# Altium integrated library Capacitor - Aluminium TH.IntLib: 4591 symbols (part 14 of 68)
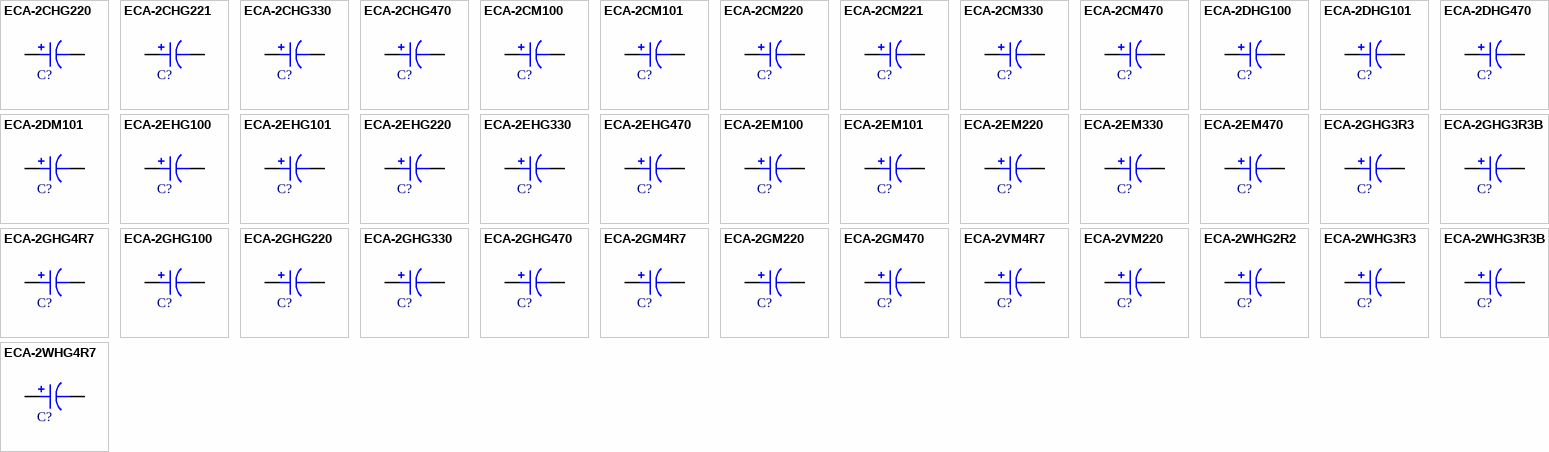
[diagram p127: symbols ECA-2CHG220 to ECA-2WHG4R7]

## ECA-2CM101
designator C?, comment 100uF  (value not drawn)
CAP ALUM 100UF 20% 160V RADIAL; Part Number: ECA-2CM101; Manufacturer: Panasonic Electronic Components; TemperatureRange: -25C ~ 85C; Type: Polar; Ripple Current: 515mA @ 120Hz; Value: 100uF; PartId: 23891; Supplier 1: Digi-Key; Supplier Part Number 1: P5326-ND; ComponentLink1Description: Datasheet; ComponentLink1URL: http://industrial.panasonic.com/www-cgi/jvcr13pz.cgi?E+PZ+3+ABA0012+ECA2CM101+7+WW; ComponentLink2Description: Digi-Key Listing; ComponentLink2URL: https://www.digikey.com/product-detail/en/panasonic-electronic-components/ECA-2CM101/P5326-ND/245080; Tolerance: 20%; Voltage: 160V; Price: 0.86; Device Package: Radial, Can, 12.5mm
footprint CAP AL TH D12.5 L5 H27
pins: 1, 2

## ECA-2CM220
designator C?, comment 22uF  (value not drawn)
CAP ALUM 22UF 20% 160V RADIAL; Part Number: ECA-2CM220; Manufacturer: Panasonic Electronic Components; TemperatureRange: -25C ~ 85C; Type: Polar; Ripple Current: 175mA @ 120Hz; Value: 22uF; PartId: 25176; Supplier 1: Digi-Key; Supplier Part Number 1: P5323-ND; ComponentLink1Description: Datasheet; ComponentLink1URL: http://industrial.panasonic.com/www-cgi/jvcr13pz.cgi?E+PZ+3+ABA0012+ECA2CM220+7+WW; ComponentLink2Description: Digi-Key Listing; ComponentLink2URL: https://www.digikey.com/product-detail/en/panasonic-electronic-components/ECA-2CM220/P5323-ND/245077; Tolerance: 20%; Voltage: 160V; Price: 0.46; Device Package: Radial, Can, 10mm
footprint CAP AL TH D10 L5 H17.5
pins: 1, 2

## ECA-2CM221
designator C?, comment 220uF  (value not drawn)
CAP ALUM 220UF 20% 160V RADIAL; Part Number: ECA-2CM221; Manufacturer: Panasonic Electronic Components; TemperatureRange: -25C ~ 85C; Type: Polar; Ripple Current: 830mA @ 120Hz; Value: 220uF; PartId: 27004; Supplier 1: Digi-Key; Supplier Part Number 1: P5327-ND; ComponentLink1Description: Datasheet; ComponentLink1URL: http://industrial.panasonic.com/www-cgi/jvcr13pz.cgi?E+PZ+3+ABA0012+ECA2CM221+7+WW; ComponentLink2Description: Digi-Key Listing; ComponentLink2URL: https://www.digikey.com/product-detail/en/panasonic-electronic-components/ECA-2CM221/P5327-ND/245081; Tolerance: 20%; Voltage: 160V; Price: 1.37; Device Package: Radial, Can, 16mm
footprint CAP AL TH D16 L7.5 H33.5
pins: 1, 2

## ECA-2CM330
designator C?, comment 33uF  (value not drawn)
CAP ALUM 33UF 20% 160V RADIAL; Part Number: ECA-2CM330; Manufacturer: Panasonic Electronic Components; TemperatureRange: -25C ~ 85C; Type: Polar; Ripple Current: 235mA @ 120Hz; Value: 33uF; PartId: 25849; Supplier 1: Digi-Key; Supplier Part Number 1: P5324-ND; ComponentLink1Description: Datasheet; ComponentLink1URL: http://industrial.panasonic.com/www-cgi/jvcr13pz.cgi?E+PZ+3+ABA0012+ECA2CM330+7+WW; ComponentLink2Description: Digi-Key Listing; ComponentLink2URL: https://www.digikey.com/product-detail/en/panasonic-electronic-components/ECA-2CM330/P5324-ND/245078; Tolerance: 20%; Voltage: 160V; Price: 0.54; Device Package: Radial, Can, 10mm
footprint CAP AL TH D10 L5 H22
pins: 1, 2

## ECA-2CM470
designator C?, comment 47uF  (value not drawn)
CAP ALUM 47UF 20% 160V RADIAL; Part Number: ECA-2CM470; Manufacturer: Panasonic Electronic Components; TemperatureRange: -25C ~ 85C; Type: Polar; Ripple Current: 320mA @ 120Hz; Value: 47uF; PartId: 23265; Supplier 1: Digi-Key; Supplier Part Number 1: P5325-ND; ComponentLink1Description: Datasheet; ComponentLink1URL: http://industrial.panasonic.com/www-cgi/jvcr13pz.cgi?E+PZ+3+ABA0012+ECA2CM470+7+WW; ComponentLink2Description: Digi-Key Listing; ComponentLink2URL: https://www.digikey.com/product-detail/en/panasonic-electronic-components/ECA-2CM470/P5325-ND/245079; Tolerance: 20%; Voltage: 160V; Price: 0.75; Device Package: Radial, Can, 12.5mm
footprint CAP AL TH D12.5 L5 H22
pins: 1, 2

## ECA-2DHG100
designator C?, comment 10uF  (value not drawn)
CAP 10UF 200V ELECT NHG RADIAL; Part Number: ECA-2DHG100; Manufacturer: Panasonic Electronic Components; TemperatureRange: -25C ~ 105C; Tolerance: 20%; Type: Polar; Ripple Current: 80mA @ 120Hz; Value: 10uF; PartId: 25300; Supplier 1: Digi-Key; Supplier Part Number 1: P19449-ND; ComponentLink1Description: Datasheet; ComponentLink1URL: http://industrial.panasonic.com/www-cgi/jvcr13pz.cgi?E+PZ+3+ABA0026+ECA2DHG100+7+WW; ComponentLink2Description: Digi-Key Listing; ComponentLink2URL: https://www.digikey.com/product-detail/en/panasonic-electronic-components/ECA-2DHG100/P19449-ND/334745; Voltage: 200V; Price: 0.63; Device Package: Radial, Can, 10mm
footprint CAP AL TH D10 L5 H17.5
pins: 1, 2

## ECA-2DHG101
designator C?, comment 100uF  (value not drawn)
CAP ALUM 100UF 20% 200V RADIAL; Part Number: ECA-2DHG101; Manufacturer: Panasonic Electronic Components; TemperatureRange: -25C ~ 105C; Type: Polar; Ripple Current: 335mA @ 120Hz; Value: 100uF; PartId: 26852; Supplier 1: Digi-Key; Supplier Part Number 1: P19450-ND; ComponentLink1Description: Datasheet; ComponentLink1URL: http://industrial.panasonic.com/www-cgi/jvcr13pz.cgi?E+PZ+3+ABA0026+ECA2DHG101+7+WW; ComponentLink2Description: Digi-Key Listing; ComponentLink2URL: https://www.digikey.com/product-detail/en/panasonic-electronic-components/ECA-2DHG101/P19450-ND/2688822; Tolerance: 20%; Voltage: 200V; Price: 1.09; Device Package: Radial, Can, 16mm
footprint CAP AL TH D16 L7.5 H27
pins: 1, 2

## ECA-2DHG470
designator C?, comment 47uF  (value not drawn)
CAP ALUM 47UF 20% 200V RADIAL; Part Number: ECA-2DHG470; Manufacturer: Panasonic Electronic Components; TemperatureRange: -25C ~ 105C; Type: Polar; Ripple Current: 220mA @ 120Hz; Value: 47uF; PartId: 23291; Supplier 1: Digi-Key; Supplier Part Number 1: P19452-ND; ComponentLink1Description: Datasheet; ComponentLink1URL: http://industrial.panasonic.com/www-cgi/jvcr13pz.cgi?E+PZ+3+ABA0026+ECA2DHG470+7+WW; ComponentLink2Description: Digi-Key Listing; ComponentLink2URL: https://www.digikey.com/product-detail/en/panasonic-electronic-components/ECA-2DHG470/P19452-ND/2688834; Tolerance: 20%; Voltage: 200V; Price: 0.79; Device Package: Radial, Can, 12.5mm
footprint CAP AL TH D12.5 L5 H22
pins: 1, 2

## ECA-2DM101
designator C?, comment 100uF  (value not drawn)
CAP ALUM 100UF 20% 200V RADIAL; Part Number: ECA-2DM101; Manufacturer: Panasonic Electronic Components; TemperatureRange: -25C ~ 85C; Type: Polar; Ripple Current: 475mA @ 120Hz; Value: 100uF; PartId: 26848; Supplier 1: Digi-Key; Supplier Part Number 1: P19453-ND; ComponentLink1Description: Datasheet; ComponentLink1URL: http://industrial.panasonic.com/www-cgi/jvcr13pz.cgi?E+PZ+3+ABA0012+ECA2DM101+7+WW; ComponentLink2Description: Digi-Key Listing; ComponentLink2URL: https://www.digikey.com/product-detail/en/panasonic-electronic-components/ECA-2DM101/P19453-ND/2688844; Tolerance: 20%; Voltage: 200V; Price: 1.04; Device Package: Radial, Can, 16mm
footprint CAP AL TH D16 L7.5 H27
pins: 1, 2

## ECA-2EHG100
designator C?, comment 10uF  (value not drawn)
CAP ALUM 10UF 20% 250V RADIAL; Part Number: ECA-2EHG100; Manufacturer: Panasonic Electronic Components; TemperatureRange: -25C ~ 105C; Type: Polar; Ripple Current: 88mA @ 120Hz; Value: 10uF; PartId: 25257; Supplier 1: Digi-Key; Supplier Part Number 1: P5867-ND; ComponentLink1Description: Datasheet; ComponentLink1URL: http://industrial.panasonic.com/www-cgi/jvcr13pz.cgi?E+PZ+3+ABA0026+ECA2EHG100+7+WW; ComponentLink2Description: Digi-Key Listing; ComponentLink2URL: https://www.digikey.com/product-detail/en/panasonic-electronic-components/ECA-2EHG100/P5867-ND/245216; Tolerance: 20%; Voltage: 250V; Price: 0.59; Device Package: Radial, Can, 10mm
footprint CAP AL TH D10 L5 H17.5
pins: 1, 2

## ECA-2EHG101
designator C?, comment 100uF  (value not drawn)
CAP ALUM 100UF 20% 250V RADIAL; Part Number: ECA-2EHG101; Manufacturer: Panasonic Electronic Components; TemperatureRange: -25C ~ 105C; Type: Polar; Ripple Current: 365mA @ 120Hz; Value: 100uF; PartId: 27013; Supplier 1: Digi-Key; Supplier Part Number 1: P5871-ND; ComponentLink1Description: Datasheet; ComponentLink1URL: http://industrial.panasonic.com/www-cgi/jvcr13pz.cgi?E+PZ+3+ABA0026+ECA2EHG101+7+WW; ComponentLink2Description: Digi-Key Listing; ComponentLink2URL: https://www.digikey.com/product-detail/en/panasonic-electronic-components/ECA-2EHG101/P5871-ND/245220; Tolerance: 20%; Voltage: 250V; Price: 1.42; Device Package: Radial, Can, 16mm
footprint CAP AL TH D16 L7.5 H33.5
pins: 1, 2

## ECA-2EHG220
designator C?, comment 22uF  (value not drawn)
CAP ALUM 22UF 20% 250V RADIAL; Part Number: ECA-2EHG220; Manufacturer: Panasonic Electronic Components; TemperatureRange: -25C ~ 105C; Type: Polar; Ripple Current: 155mA @ 120Hz; Value: 22uF; PartId: 23287; Supplier 1: Digi-Key; Supplier Part Number 1: P5868-ND; ComponentLink1Description: Datasheet; ComponentLink1URL: http://industrial.panasonic.com/www-cgi/jvcr13pz.cgi?E+PZ+3+ABA0026+ECA2EHG220+7+WW; ComponentLink2Description: Digi-Key Listing; ComponentLink2URL: https://www.digikey.com/product-detail/en/panasonic-electronic-components/ECA-2EHG220/P5868-ND/245217; Tolerance: 20%; Voltage: 250V; Price: 0.79; Device Package: Radial, Can, 12.5mm
footprint CAP AL TH D12.5 L5 H22
pins: 1, 2

## ECA-2EHG330
designator C?, comment 33uF  (value not drawn)
CAP ALUM 33UF 20% 250V RADIAL; Part Number: ECA-2EHG330; Manufacturer: Panasonic Electronic Components; TemperatureRange: -25C ~ 105C; Type: Polar; Ripple Current: 190mA @ 120Hz; Value: 33uF; PartId: 23347; Supplier 1: Digi-Key; Supplier Part Number 1: P5869-ND; ComponentLink1Description: Datasheet; ComponentLink1URL: http://industrial.panasonic.com/www-cgi/jvcr13pz.cgi?E+PZ+3+ABA0026+ECA2EHG330+7+WW; ComponentLink2Description: Digi-Key Listing; ComponentLink2URL: https://www.digikey.com/product-detail/en/panasonic-electronic-components/ECA-2EHG330/P5869-ND/245218; Tolerance: 20%; Voltage: 250V; Price: 0.85; Device Package: Radial, Can, 12.5mm
footprint CAP AL TH D12.5 L5 H22
pins: 1, 2

## ECA-2EHG470
designator C?, comment 47uF  (value not drawn)
CAP ALUM 47UF 20% 250V RADIAL; Part Number: ECA-2EHG470; Manufacturer: Panasonic Electronic Components; TemperatureRange: -25C ~ 105C; Type: Polar; Ripple Current: 230mA @ 120Hz; Value: 47uF; PartId: 23953; Supplier 1: Digi-Key; Supplier Part Number 1: P5870-ND; ComponentLink1Description: Datasheet; ComponentLink1URL: http://industrial.panasonic.com/www-cgi/jvcr13pz.cgi?E+PZ+3+ABA0026+ECA2EHG470+7+WW; ComponentLink2Description: Digi-Key Listing; ComponentLink2URL: https://www.digikey.com/product-detail/en/panasonic-electronic-components/ECA-2EHG470/P5870-ND/245219; Tolerance: 20%; Voltage: 250V; Price: 0.98; Device Package: Radial, Can, 12.5mm
footprint CAP AL TH D12.5 L5 H27
pins: 1, 2

## ECA-2EM100
designator C?, comment 10uF  (value not drawn)
CAP ALUM 10UF 20% 250V RADIAL; Part Number: ECA-2EM100; Manufacturer: Panasonic Electronic Components; TemperatureRange: -25C ~ 85C; Type: Polar; Ripple Current: 110mA @ 120Hz; Value: 10uF; PartId: 25177; Supplier 1: Digi-Key; Supplier Part Number 1: P5334-ND; ComponentLink1Description: Datasheet; ComponentLink1URL: http://industrial.panasonic.com/www-cgi/jvcr13pz.cgi?E+PZ+3+ABA0012+ECA2EM100+7+WW; ComponentLink2Description: Digi-Key Listing; ComponentLink2URL: https://www.digikey.com/product-detail/en/panasonic-electronic-components/ECA-2EM100/P5334-ND/245088; Tolerance: 20%; Voltage: 250V; Price: 0.46; Device Package: Radial, Can, 10mm
footprint CAP AL TH D10 L5 H17.5
pins: 1, 2

## ECA-2EM101
designator C?, comment 100uF  (value not drawn)
CAP ALUM 100UF 20% 250V RADIAL; Part Number: ECA-2EM101; Manufacturer: Panasonic Electronic Components; TemperatureRange: -25C ~ 85C; Type: Polar; Ripple Current: 530mA @ 120Hz; Value: 100uF; PartId: 26987; Supplier 1: Digi-Key; Supplier Part Number 1: P5338-ND; ComponentLink1Description: Datasheet; ComponentLink1URL: http://industrial.panasonic.com/www-cgi/jvcr13pz.cgi?E+PZ+3+ABA0012+ECA2EM101+7+WW; ComponentLink2Description: Digi-Key Listing; ComponentLink2URL: https://www.digikey.com/product-detail/en/panasonic-electronic-components/ECA-2EM101/P5338-ND/245092; Tolerance: 20%; Voltage: 250V; Price: 1.26; Device Package: Radial, Can, 16mm
footprint CAP AL TH D16 L7.5 H33.5
pins: 1, 2

## ECA-2EM220
designator C?, comment 22uF  (value not drawn)
CAP ALUM 22UF 20% 250V RADIAL; Part Number: ECA-2EM220; Manufacturer: Panasonic Electronic Components; TemperatureRange: -25C ~ 85C; Type: Polar; Ripple Current: 180mA @ 120Hz; Value: 22uF; PartId: 25862; Supplier 1: Digi-Key; Supplier Part Number 1: P5335-ND; ComponentLink1Description: Datasheet; ComponentLink1URL: http://industrial.panasonic.com/www-cgi/jvcr13pz.cgi?E+PZ+3+ABA0012+ECA2EM220+7+WW; ComponentLink2Description: Digi-Key Listing; ComponentLink2URL: https://www.digikey.com/product-detail/en/panasonic-electronic-components/ECA-2EM220/P5335-ND/245089; Tolerance: 20%; Voltage: 250V; Price: 0.6; Device Package: Radial, Can, 10mm
footprint CAP AL TH D10 L5 H22
pins: 1, 2

## ECA-2EM330
designator C?, comment 33uF  (value not drawn)
CAP ALUM 33UF 20% 250V RADIAL; Part Number: ECA-2EM330; Manufacturer: Panasonic Electronic Components; TemperatureRange: -25C ~ 85C; Type: Polar; Ripple Current: 250mA @ 120Hz; Value: 33uF; PartId: 23266; Supplier 1: Digi-Key; Supplier Part Number 1: P5336-ND; ComponentLink1Description: Datasheet; ComponentLink1URL: http://industrial.panasonic.com/www-cgi/jvcr13pz.cgi?E+PZ+3+ABA0012+ECA2EM330+7+WW; ComponentLink2Description: Digi-Key Listing; ComponentLink2URL: https://www.digikey.com/product-detail/en/panasonic-electronic-components/ECA-2EM330/P5336-ND/245090; Tolerance: 20%; Voltage: 250V; Price: 0.75; Device Package: Radial, Can, 12.5mm
footprint CAP AL TH D12.5 L5 H22
pins: 1, 2

## ECA-2EM470
designator C?, comment 47uF  (value not drawn)
CAP ALUM 47UF 20% 250V RADIAL; Part Number: ECA-2EM470; Manufacturer: Panasonic Electronic Components; TemperatureRange: -25C ~ 85C; Type: Polar; Ripple Current: 330mA @ 120Hz; Value: 47uF; PartId: 23892; Supplier 1: Digi-Key; Supplier Part Number 1: P5337-ND; ComponentLink1Description: Datasheet; ComponentLink1URL: http://industrial.panasonic.com/www-cgi/jvcr13pz.cgi?E+PZ+3+ABA0012+ECA2EM470+7+WW; ComponentLink2Description: Digi-Key Listing; ComponentLink2URL: https://www.digikey.com/product-detail/en/panasonic-electronic-components/ECA-2EM470/P5337-ND/245091; Tolerance: 20%; Voltage: 250V; Price: 0.86; Device Package: Radial, Can, 12.5mm
footprint CAP AL TH D12.5 L5 H27
pins: 1, 2

## ECA-2GHG3R3
designator C?, comment 3.3uF  (value not drawn)
CAP ALUM 3.3UF 20% 400V RADIAL; Part Number: ECA-2GHG3R3; Manufacturer: Panasonic Electronic Components; TemperatureRange: -25C ~ 105C; Type: Polar; Ripple Current: 40mA @ 120Hz; Value: 3.3uF; PartId: 24930; Supplier 1: Digi-Key; Supplier Part Number 1: P19459-ND; ComponentLink1Description: Datasheet; ComponentLink1URL: http://industrial.panasonic.com/www-cgi/jvcr13pz.cgi?E+PZ+3+ABA0026+ECA2GHG3R3+7+WW; ComponentLink2Description: Digi-Key Listing; ComponentLink2URL: https://www.digikey.com/product-detail/en/panasonic-electronic-components/ECA-2GHG3R3/P19459-ND/2688899; Tolerance: 20%; Voltage: 400V; Price: 0.5; Device Package: Radial, Can, 10mm
footprint CAP AL TH D10 L5 H14.5
pins: 1, 2

## ECA-2GHG3R3B
designator C?, comment 3.3uF  (value not drawn)
CAP ALUM 3.3UF 20% 400V RADIAL; Part Number: ECA-2GHG3R3B; Manufacturer: Panasonic Electronic Components; TemperatureRange: -25C ~ 105C; Type: Polar; Ripple Current: 40mA @ 120Hz; Value: 3.3uF; PartId: 24597; Supplier 1: Digi-Key; Supplier Part Number 1: P19570TB-ND; ComponentLink1Description: Datasheet; ComponentLink1URL: http://industrial.panasonic.com/www-cgi/jvcr13pz.cgi?E+PZ+3+ABA0026+ECA2GHG3R3B+7+WW; ComponentLink2Description: Digi-Key Listing; ComponentLink2URL: https://www.digikey.com/product-detail/en/panasonic-electronic-components/ECA-2GHG3R3B/P19570TB-ND/2688900; Tolerance: 20%; Voltage: 400V; Price: 0.1728; Device Package: Radial, Can, 10mm
footprint CAP AL TH D10 L5 H14.5
pins: 1, 2

## ECA-2GHG4R7
designator C?, comment 4.7uF  (value not drawn)
CAP ALUM 4.7UF 20% 400V RADIAL; Part Number: ECA-2GHG4R7; Manufacturer: Panasonic Electronic Components; TemperatureRange: -25C ~ 105C; Type: Polar; Ripple Current: 50mA @ 120Hz; Value: 4.7uF; PartId: 25298; Supplier 1: Digi-Key; Supplier Part Number 1: P19461-ND; ComponentLink1Description: Datasheet; ComponentLink1URL: http://industrial.panasonic.com/www-cgi/jvcr13pz.cgi?E+PZ+3+ABA0026+ECA2GHG4R7+7+WW; ComponentLink2Description: Digi-Key Listing; ComponentLink2URL: https://www.digikey.com/product-detail/en/panasonic-electronic-components/ECA-2GHG4R7/P19461-ND/2688902; Tolerance: 20%; Voltage: 400V; Price: 0.63; Device Package: Radial, Can, 10mm
footprint CAP AL TH D10 L5 H17.5
pins: 1, 2

## ECA-2GHG100
designator C?, comment 10uF  (value not drawn)
CAP ALUM 10UF 20% 400V RADIAL; Part Number: ECA-2GHG100; Manufacturer: Panasonic Electronic Components; TemperatureRange: -25C ~ 105C; Type: Polar; Ripple Current: 80mA @ 120Hz; Value: 10uF; PartId: 25919; Supplier 1: Digi-Key; Supplier Part Number 1: P19455-ND; ComponentLink1Description: Datasheet; ComponentLink1URL: http://industrial.panasonic.com/www-cgi/jvcr13pz.cgi?E+PZ+3+ABA0026+ECA2GHG100+7+WW; ComponentLink2Description: Digi-Key Listing; ComponentLink2URL: https://www.digikey.com/product-detail/en/panasonic-electronic-components/ECA-2GHG100/P19455-ND/2688890; Tolerance: 20%; Voltage: 400V; Price: 0.71; Device Package: Radial, Can, 10mm
footprint CAP AL TH D10 L5 H22
pins: 1, 2

## ECA-2GHG220
designator C?, comment 22uF  (value not drawn)
CAP ALUM 22UF 20% 400V RADIAL; Part Number: ECA-2GHG220; Manufacturer: Panasonic Electronic Components; TemperatureRange: -25C ~ 105C; Type: Polar; Ripple Current: 145mA @ 120Hz; Value: 22uF; PartId: 23958; Supplier 1: Digi-Key; Supplier Part Number 1: P19456-ND; ComponentLink1Description: Datasheet; ComponentLink1URL: http://industrial.panasonic.com/www-cgi/jvcr13pz.cgi?E+PZ+3+ABA0026+ECA2GHG220+7+WW; ComponentLink2Description: Digi-Key Listing; ComponentLink2URL: https://www.digikey.com/product-detail/en/panasonic-electronic-components/ECA-2GHG220/P19456-ND/2688892; Tolerance: 20%; Voltage: 400V; Price: 0.98; Device Package: Radial, Can, 12.5mm
footprint CAP AL TH D12.5 L5 H27
pins: 1, 2

## ECA-2GHG330
designator C?, comment 33uF  (value not drawn)
CAP ALUM 33UF 20% 400V RADIAL; Part Number: ECA-2GHG330; Manufacturer: Panasonic Electronic Components; TemperatureRange: -25C ~ 105C; Type: Polar; Ripple Current: 195mA @ 120Hz; Value: 33uF; PartId: 26887; Supplier 1: Digi-Key; Supplier Part Number 1: P19458-ND; ComponentLink1Description: Datasheet; ComponentLink1URL: http://industrial.panasonic.com/www-cgi/jvcr13pz.cgi?E+PZ+3+ABA0026+ECA2GHG330+7+WW; ComponentLink2Description: Digi-Key Listing; ComponentLink2URL: https://www.digikey.com/product-detail/en/panasonic-electronic-components/ECA-2GHG330/P19458-ND/2688897; Tolerance: 20%; Voltage: 400V; Price: 1.31; Device Package: Radial, Can, 16mm
footprint CAP AL TH D16 L7.5 H27
pins: 1, 2

## ECA-2GHG470
designator C?, comment 47uF  (value not drawn)
CAP ALUM 47UF 20% 400V RADIAL; Part Number: ECA-2GHG470; Manufacturer: Panasonic Electronic Components; TemperatureRange: -25C ~ 105C; Type: Polar; Ripple Current: 250mA @ 120Hz; Value: 47uF; PartId: 27073; Supplier 1: Digi-Key; Supplier Part Number 1: P19460-ND; ComponentLink1Description: Datasheet; ComponentLink1URL: http://industrial.panasonic.com/www-cgi/jvcr13pz.cgi?E+PZ+3+ABA0026+ECA2GHG470+7+WW; ComponentLink2Description: Digi-Key Listing; ComponentLink2URL: https://www.digikey.com/product-detail/en/panasonic-electronic-components/ECA-2GHG470/P19460-ND/2688901; Tolerance: 20%; Voltage: 400V; Price: 1.64; Device Package: Radial, Can, 16mm
footprint CAP AL TH D16 L7.5 H33.5
pins: 1, 2

## ECA-2GM4R7
designator C?, comment 4.7uF  (value not drawn)
CAP ALUM 4.7UF 20% 400V RADIAL; Part Number: ECA-2GM4R7; Manufacturer: Panasonic Electronic Components; TemperatureRange: -25C ~ 85C; Type: Polar; Ripple Current: 72mA @ 120Hz; Value: 4.7uF; PartId: 25202; Supplier 1: Digi-Key; Supplier Part Number 1: P19467-ND; ComponentLink1Description: Datasheet; ComponentLink1URL: http://industrial.panasonic.com/www-cgi/jvcr13pz.cgi?E+PZ+3+ABA0012+ECA2GM4R7+7+WW; ComponentLink2Description: Digi-Key Listing; ComponentLink2URL: https://www.digikey.com/product-detail/en/panasonic-electronic-components/ECA-2GM4R7/P19467-ND/2688920; Tolerance: 20%; Voltage: 400V; Price: 0.5; Device Package: Radial, Can, 10mm
footprint CAP AL TH D10 L5 H17.5
pins: 1, 2

## ECA-2GM220
designator C?, comment 22uF  (value not drawn)
CAP ALUM 22UF 20% 400V RADIAL; Part Number: ECA-2GM220; Manufacturer: Panasonic Electronic Components; TemperatureRange: -25C ~ 85C; Type: Polar; Ripple Current: 215mA @ 120Hz; Value: 22uF; PartId: 23912; Supplier 1: Digi-Key; Supplier Part Number 1: P19464-ND; ComponentLink1Description: Datasheet; ComponentLink1URL: http://industrial.panasonic.com/www-cgi/jvcr13pz.cgi?E+PZ+3+ABA0012+ECA2GM220+7+WW; ComponentLink2Description: Digi-Key Listing; ComponentLink2URL: https://www.digikey.com/product-detail/en/panasonic-electronic-components/ECA-2GM220/P19464-ND/2688910; Tolerance: 20%; Voltage: 400V; Price: 0.92; Device Package: Radial, Can, 12.5mm
footprint CAP AL TH D12.5 L5 H27
pins: 1, 2

## ECA-2GM470
designator C?, comment 47uF  (value not drawn)
CAP ALUM 47UF 20% 400V RADIAL; Part Number: ECA-2GM470; Manufacturer: Panasonic Electronic Components; TemperatureRange: -25C ~ 85C; Type: Polar; Ripple Current: 350mA @ 120Hz; Value: 47uF; PartId: 27039; Supplier 1: Digi-Key; Supplier Part Number 1: P19466-ND; ComponentLink1Description: Datasheet; ComponentLink1URL: http://industrial.panasonic.com/www-cgi/jvcr13pz.cgi?E+PZ+3+ABA0012+ECA2GM470+7+WW; ComponentLink2Description: Digi-Key Listing; ComponentLink2URL: https://www.digikey.com/product-detail/en/panasonic-electronic-components/ECA-2GM470/P19466-ND/2688919; Tolerance: 20%; Voltage: 400V; Price: 1.53; Device Package: Radial, Can, 16mm
footprint CAP AL TH D16 L7.5 H33.5
pins: 1, 2

## ECA-2VM4R7
designator C?, comment 4.7uF  (value not drawn)
CAP ALUM 4.7UF 20% 350V RADIAL; Part Number: ECA-2VM4R7; Manufacturer: Panasonic Electronic Components; TemperatureRange: -25C ~ 85C; Type: Polar; Ripple Current: 65mA @ 120Hz; Value: 4.7uF; PartId: 24765; Supplier 1: Digi-Key; Supplier Part Number 1: P19471-ND; ComponentLink1Description: Datasheet; ComponentLink1URL: http://industrial.panasonic.com/www-cgi/jvcr13pz.cgi?E+PZ+3+ABA0012+ECA2VM4R7+7+WW; ComponentLink2Description: Digi-Key Listing; ComponentLink2URL: https://www.digikey.com/product-detail/en/panasonic-electronic-components/ECA-2VM4R7/P19471-ND/2688958; Tolerance: 20%; Voltage: 350V; Price: 0.43; Device Package: Radial, Can, 10mm
footprint CAP AL TH D10 L5 H14.5
pins: 1, 2

## ECA-2VM220
designator C?, comment 22uF  (value not drawn)
CAP ALUM 22UF 20% 350V RADIAL; Part Number: ECA-2VM220; Manufacturer: Panasonic Electronic Components; TemperatureRange: -25C ~ 85C; Type: Polar; Ripple Current: 195mA @ 120Hz; Value: 22uF; PartId: 23348; Supplier 1: Digi-Key; Supplier Part Number 1: P19470-ND; ComponentLink1Description: Datasheet; ComponentLink1URL: http://industrial.panasonic.com/www-cgi/jvcr13pz.cgi?E+PZ+3+ABA0012+ECA2VM220+7+WW; ComponentLink2Description: Digi-Key Listing; ComponentLink2URL: https://www.digikey.com/product-detail/en/panasonic-electronic-components/ECA-2VM220/P19470-ND/2688947; Tolerance: 20%; Voltage: 350V; Price: 0.85; Device Package: Radial, Can, 12.5mm
footprint CAP AL TH D12.5 L5 H22
pins: 1, 2

## ECA-2WHG2R2
designator C?, comment 2.2uF  (value not drawn)
CAP ALUM 2.2UF 20% 450V RADIAL; Part Number: ECA-2WHG2R2; Manufacturer: Panasonic Electronic Components; TemperatureRange: -25C ~ 105C; Type: Polar; Ripple Current: 29mA @ 120Hz; Value: 2.2uF; PartId: 24819; Supplier 1: Digi-Key; Supplier Part Number 1: P5873-ND; ComponentLink1Description: Datasheet; ComponentLink1URL: http://industrial.panasonic.com/www-cgi/jvcr13pz.cgi?E+PZ+3+ABA0026+ECA2WHG2R2+7+WW; ComponentLink2Description: Digi-Key Listing; ComponentLink2URL: https://www.digikey.com/product-detail/en/panasonic-electronic-components/ECA-2WHG2R2/P5873-ND/245222; Tolerance: 20%; Voltage: 450V; Price: 0.46; Device Package: Radial, Can, 10mm
footprint CAP AL TH D10 L5 H14.5
pins: 1, 2

## ECA-2WHG3R3
designator C?, comment 3.3uF  (value not drawn)
CAP ALUM 3.3UF 20% 450V RADIAL; Part Number: ECA-2WHG3R3; Manufacturer: Panasonic Electronic Components; TemperatureRange: -25C ~ 105C; Type: Polar; Ripple Current: 41mA @ 120Hz; Value: 3.3uF; PartId: 25306; Supplier 1: Digi-Key; Supplier Part Number 1: P5874-ND; ComponentLink1Description: Datasheet; ComponentLink1URL: http://industrial.panasonic.com/www-cgi/jvcr13pz.cgi?E+PZ+3+ABA0026+ECA2WHG3R3+7+WW; ComponentLink2Description: Digi-Key Listing; ComponentLink2URL: https://www.digikey.com/product-detail/en/panasonic-electronic-components/ECA-2WHG3R3/P5874-ND/245223; Tolerance: 20%; Voltage: 450V; Price: 0.65; Device Package: Radial, Can, 10mm
footprint CAP AL TH D10 L5 H17.5
pins: 1, 2

## ECA-2WHG3R3B
designator C?, comment 3.3uF  (value not drawn)
CAP ALUM 3.3UF 20% 450V RADIAL; Part Number: ECA-2WHG3R3B; Manufacturer: Panasonic Electronic Components; TemperatureRange: -25C ~ 105C; Type: Polar; Ripple Current: 41mA @ 120Hz; Value: 3.3uF; PartId: 25065; Supplier 1: Digi-Key; Supplier Part Number 1: P19572TB-ND; ComponentLink1Description: Datasheet; ComponentLink1URL: http://industrial.panasonic.com/www-cgi/jvcr13pz.cgi?E+PZ+3+ABA0026+ECA2WHG3R3B+7+WW; ComponentLink2Description: Digi-Key Listing; ComponentLink2URL: https://www.digikey.com/product-detail/en/panasonic-electronic-components/ECA-2WHG3R3B/P19572TB-ND/2688966; Tolerance: 20%; Voltage: 450V; Price: 0.2244; Device Package: Radial, Can, 10mm
footprint CAP AL TH D10 L5 H17.5
pins: 1, 2

## ECA-2WHG4R7
designator C?, comment 4.7uF  (value not drawn)
CAP ALUM 4.7UF 20% 450V RADIAL; Part Number: ECA-2WHG4R7; Manufacturer: Panasonic Electronic Components; TemperatureRange: -25C ~ 105C; Type: Polar; Ripple Current: 49mA @ 120Hz; Value: 4.7uF; PartId: 25884; Supplier 1: Digi-Key; Supplier Part Number 1: P5875-ND; ComponentLink1Description: Datasheet; ComponentLink1URL: http://industrial.panasonic.com/www-cgi/jvcr13pz.cgi?E+PZ+3+ABA0026+ECA2WHG4R7+7+WW; ComponentLink2Description: Digi-Key Listing; ComponentLink2URL: https://www.digikey.com/product-detail/en/panasonic-electronic-components/ECA-2WHG4R7/P5875-ND/245224; Tolerance: 20%; Voltage: 450V; Price: 0.65; Device Package: Radial, Can, 10mm
footprint CAP AL TH D10 L5 H22
pins: 1, 2

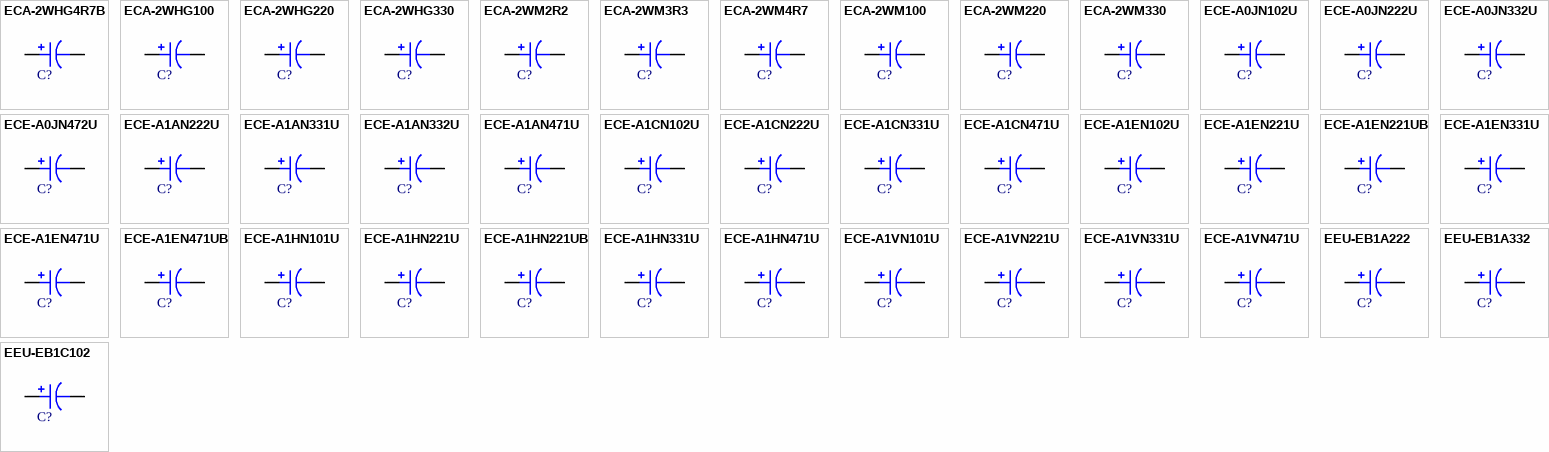
[diagram p23: symbols ECA-2WHG4R7B to EEU-EB1C102]

## ECA-2WHG4R7B
designator C?, comment 4.7uF  (value not drawn)
CAP ALUM 4.7UF 20% 450V RADIAL; Part Number: ECA-2WHG4R7B; Manufacturer: Panasonic Electronic Components; TemperatureRange: -25C ~ 105C; Type: Polar; Ripple Current: 49mA @ 120Hz; Value: 4.7uF; PartId: 25777; Supplier 1: Digi-Key; Supplier Part Number 1: P19573TB-ND; ComponentLink1Description: Datasheet; ComponentLink1URL: http://industrial.panasonic.com/www-cgi/jvcr13pz.cgi?E+PZ+3+ABA0026+ECA2WHG4R7B+7+WW; ComponentLink2Description: Digi-Key Listing; ComponentLink2URL: https://www.digikey.com/product-detail/en/panasonic-electronic-components/ECA-2WHG4R7B/P19573TB-ND/2688967; Tolerance: 20%; Voltage: 450V; Price: 0.2446; Device Package: Radial, Can, 10mm
footprint CAP AL TH D10 L5 H22
pins: 1, 2

## ECA-2WHG100
designator C?, comment 10uF  (value not drawn)
CAP ALUM 10UF 20% 450V RADIAL; Part Number: ECA-2WHG100; Manufacturer: Panasonic Electronic Components; TemperatureRange: -25C ~ 105C; Type: Polar; Ripple Current: 75mA @ 120Hz; Value: 10uF; PartId: 23359; Supplier 1: Digi-Key; Supplier Part Number 1: P5876-ND; ComponentLink1Description: Datasheet; ComponentLink1URL: http://industrial.panasonic.com/www-cgi/jvcr13pz.cgi?E+PZ+3+ABA0026+ECA2WHG100+7+WW; ComponentLink2Description: Digi-Key Listing; ComponentLink2URL: https://www.digikey.com/product-detail/en/panasonic-electronic-components/ECA-2WHG100/P5876-ND/245225; Tolerance: 20%; Voltage: 450V; Price: 0.86; Device Package: Radial, Can, 12.5mm
footprint CAP AL TH D12.5 L5 H22
pins: 1, 2

## ECA-2WHG220
designator C?, comment 22uF  (value not drawn)
CAP ALUM 22UF 20% 450V RADIAL; Part Number: ECA-2WHG220; Manufacturer: Panasonic Electronic Components; TemperatureRange: -25C ~ 105C; Type: Polar; Ripple Current: 115mA @ 120Hz; Value: 22uF; PartId: 26884; Supplier 1: Digi-Key; Supplier Part Number 1: P5877-ND; ComponentLink1Description: Datasheet; ComponentLink1URL: http://industrial.panasonic.com/www-cgi/jvcr13pz.cgi?E+PZ+3+ABA0026+ECA2WHG220+7+WW; ComponentLink2Description: Digi-Key Listing; ComponentLink2URL: https://www.digikey.com/product-detail/en/panasonic-electronic-components/ECA-2WHG220/P5877-ND/245226; Tolerance: 20%; Voltage: 450V; Price: 1.31; Device Package: Radial, Can, 16mm
footprint CAP AL TH D16 L7.5 H27
pins: 1, 2

## ECA-2WHG330
designator C?, comment 33uF  (value not drawn)
CAP ALUM 33UF 20% 450V RADIAL; Part Number: ECA-2WHG330; Manufacturer: Panasonic Electronic Components; TemperatureRange: -25C ~ 105C; Type: Polar; Ripple Current: 155mA @ 120Hz; Value: 33uF; PartId: 27070; Supplier 1: Digi-Key; Supplier Part Number 1: P5878-ND; ComponentLink1Description: Datasheet; ComponentLink1URL: http://industrial.panasonic.com/www-cgi/jvcr13pz.cgi?E+PZ+3+ABA0026+ECA2WHG330+7+WW; ComponentLink2Description: Digi-Key Listing; ComponentLink2URL: https://www.digikey.com/product-detail/en/panasonic-electronic-components/ECA-2WHG330/P5878-ND/245227; Tolerance: 20%; Voltage: 450V; Price: 1.64; Device Package: Radial, Can, 16mm
footprint CAP AL TH D16 L7.5 H33.5
pins: 1, 2

## ECA-2WM2R2
designator C?, comment 2.2uF  (value not drawn)
CAP ALUM 2.2UF 20% 450V RADIAL; Part Number: ECA-2WM2R2; Manufacturer: Panasonic Electronic Components; TemperatureRange: -25C ~ 85C; Type: Polar; Ripple Current: 44mA @ 120Hz; Value: 2.2uF; PartId: 24762; Supplier 1: Digi-Key; Supplier Part Number 1: P5341-ND; ComponentLink1Description: Datasheet; ComponentLink1URL: http://industrial.panasonic.com/www-cgi/jvcr13pz.cgi?E+PZ+3+ABA0012+ECA2WM2R2+7+WW; ComponentLink2Description: Digi-Key Listing; ComponentLink2URL: https://www.digikey.com/product-detail/en/panasonic-electronic-components/ECA-2WM2R2/P5341-ND/245095; Tolerance: 20%; Voltage: 450V; Price: 0.43; Device Package: Radial, Can, 10mm
footprint CAP AL TH D10 L5 H14.5
pins: 1, 2

## ECA-2WM3R3
designator C?, comment 3.3uF  (value not drawn)
CAP ALUM 3.3UF 20% 450V RADIAL; Part Number: ECA-2WM3R3; Manufacturer: Panasonic Electronic Components; TemperatureRange: -25C ~ 85C; Type: Polar; Ripple Current: 60mA @ 120Hz; Value: 3.3uF; PartId: 25201; Supplier 1: Digi-Key; Supplier Part Number 1: P5342-ND; ComponentLink1Description: Datasheet; ComponentLink1URL: http://industrial.panasonic.com/www-cgi/jvcr13pz.cgi?E+PZ+3+ABA0012+ECA2WM3R3+7+WW; ComponentLink2Description: Digi-Key Listing; ComponentLink2URL: https://www.digikey.com/product-detail/en/panasonic-electronic-components/ECA-2WM3R3/P5342-ND/245096; Tolerance: 20%; Voltage: 450V; Price: 0.5; Device Package: Radial, Can, 10mm
footprint CAP AL TH D10 L5 H17.5
pins: 1, 2

## ECA-2WM4R7
designator C?, comment 4.7uF  (value not drawn)
CAP ALUM 4.7UF 20% 450V RADIAL; Part Number: ECA-2WM4R7; Manufacturer: Panasonic Electronic Components; TemperatureRange: -25C ~ 85C; Type: Polar; Ripple Current: 79mA @ 120Hz; Value: 4.7uF; PartId: 25867; Supplier 1: Digi-Key; Supplier Part Number 1: P5343-ND; ComponentLink1Description: Datasheet; ComponentLink1URL: http://industrial.panasonic.com/www-cgi/jvcr13pz.cgi?E+PZ+3+ABA0012+ECA2WM4R7+7+WW; ComponentLink2Description: Digi-Key Listing; ComponentLink2URL: https://www.digikey.com/product-detail/en/panasonic-electronic-components/ECA-2WM4R7/P5343-ND/245097; Tolerance: 20%; Voltage: 450V; Price: 0.63; Device Package: Radial, Can, 10mm
footprint CAP AL TH D10 L5 H22
pins: 1, 2

## ECA-2WM100
designator C?, comment 10uF  (value not drawn)
CAP ALUM 10UF 20% 450V RADIAL; Part Number: ECA-2WM100; Manufacturer: Panasonic Electronic Components; TemperatureRange: -25C ~ 85C; Type: Polar; Ripple Current: 130mA @ 120Hz; Value: 10uF; PartId: 23294; Supplier 1: Digi-Key; Supplier Part Number 1: P5344-ND; ComponentLink1Description: Datasheet; ComponentLink1URL: http://industrial.panasonic.com/www-cgi/jvcr13pz.cgi?E+PZ+3+ABA0012+ECA2WM100+7+WW; ComponentLink2Description: Digi-Key Listing; ComponentLink2URL: https://www.digikey.com/product-detail/en/panasonic-electronic-components/ECA-2WM100/P5344-ND/245098; Tolerance: 20%; Voltage: 450V; Price: 0.8; Device Package: Radial, Can, 12.5mm
footprint CAP AL TH D12.5 L5 H22
pins: 1, 2

## ECA-2WM220
designator C?, comment 22uF  (value not drawn)
CAP ALUM 22UF 20% 450V RADIAL; Part Number: ECA-2WM220; Manufacturer: Panasonic Electronic Components; TemperatureRange: -25C ~ 85C; Type: Polar; Ripple Current: 210mA @ 120Hz; Value: 22uF; PartId: 26857; Supplier 1: Digi-Key; Supplier Part Number 1: P5345-ND; ComponentLink1Description: Datasheet; ComponentLink1URL: http://industrial.panasonic.com/www-cgi/jvcr13pz.cgi?E+PZ+3+ABA0012+ECA2WM220+7+WW; ComponentLink2Description: Digi-Key Listing; ComponentLink2URL: https://www.digikey.com/product-detail/en/panasonic-electronic-components/ECA-2WM220/P5345-ND/245099; Tolerance: 20%; Voltage: 450V; Price: 1.18; Device Package: Radial, Can, 16mm
footprint CAP AL TH D16 L7.5 H27
pins: 1, 2

## ECA-2WM330
designator C?, comment 33uF  (value not drawn)
CAP ALUM 33UF 20% 450V RADIAL; Part Number: ECA-2WM330; Manufacturer: Panasonic Electronic Components; TemperatureRange: -25C ~ 85C; Type: Polar; Ripple Current: 285mA @ 120Hz; Value: 33uF; PartId: 27037; Supplier 1: Digi-Key; Supplier Part Number 1: P5346-ND; ComponentLink1Description: Datasheet; ComponentLink1URL: http://industrial.panasonic.com/www-cgi/jvcr13pz.cgi?E+PZ+3+ABA0012+ECA2WM330+7+WW; ComponentLink2Description: Digi-Key Listing; ComponentLink2URL: https://www.digikey.com/product-detail/en/panasonic-electronic-components/ECA-2WM330/P5346-ND/245100; Tolerance: 20%; Voltage: 450V; Price: 1.53; Device Package: Radial, Can, 16mm
footprint CAP AL TH D16 L7.5 H33.5
pins: 1, 2

## ECE-A0JN102U
designator C?, comment 1000uF  (value not drawn)
CAP ALUM 1000UF 20% 6.3V RADIAL; Part Number: ECE-A0JN102U; Manufacturer: Panasonic Electronic Components; TemperatureRange: -40C ~ 85C; Type: Bi-Polar; Ripple Current: 430mA @ 120Hz; Value: 1000uF; PartId: 25694; Supplier 1: Digi-Key; Supplier Part Number 1: P1147-ND; ComponentLink1Description: Datasheet; ComponentLink1URL: http://industrial.panasonic.com/www-cgi/jvcr13pz.cgi?E+PZ+3+ABA0097+ECEA0JN102U+7+WW; ComponentLink2Description: Digi-Key Listing; ComponentLink2URL: https://www.digikey.com/product-detail/en/panasonic-electronic-components/ECE-A0JN102U/P1147-ND/227588; Tolerance: 20%; Voltage: 6.3V; Price: 0.82; Device Package: Radial, Can, 10mm
footprint CAP AL TH D10 L5 H22
pins: 1, 2

## ECE-A0JN222U
designator C?, comment 2200uF  (value not drawn)
CAP ALUM 2200UF 20% 6.3V RADIAL; Part Number: ECE-A0JN222U; Manufacturer: Panasonic Electronic Components; TemperatureRange: -40C ~ 85C; Type: Bi-Polar; Ripple Current: 660mA @ 120Hz; Value: 2200uF; PartId: 23579; Supplier 1: Digi-Key; Supplier Part Number 1: P1148-ND; ComponentLink1Description: Datasheet; ComponentLink1URL: http://industrial.panasonic.com/www-cgi/jvcr13pz.cgi?E+PZ+3+ABA0097+ECEA0JN222U+7+WW; ComponentLink2Description: Digi-Key Listing; ComponentLink2URL: https://www.digikey.com/product-detail/en/panasonic-electronic-components/ECE-A0JN222U/P1148-ND/227589; Tolerance: 20%; Voltage: 6.3V; Price: 0.98; Device Package: Radial, Can, 12.5mm
footprint CAP AL TH D12.5 L5 H25
pins: 1, 2

## ECE-A0JN332U
designator C?, comment 3300uF  (value not drawn)
CAP ALUM 3300UF 20% 6.3V RADIAL; Part Number: ECE-A0JN332U; Manufacturer: Panasonic Electronic Components; TemperatureRange: -40C ~ 85C; Type: Bi-Polar; Ripple Current: 760mA @ 120Hz; Value: 3300uF; PartId: 26588; Supplier 1: Digi-Key; Supplier Part Number 1: P1149-ND; ComponentLink1Description: Datasheet; ComponentLink1URL: http://industrial.panasonic.com/www-cgi/jvcr13pz.cgi?E+PZ+3+ABA0097+ECEA0JN332U+7+WW; ComponentLink2Description: Digi-Key Listing; ComponentLink2URL: https://www.digikey.com/product-detail/en/panasonic-electronic-components/ECE-A0JN332U/P1149-ND/227590; Tolerance: 20%; Voltage: 6.3V; Price: 1.26; Device Package: Radial, Can, 16mm
footprint CAP AL TH D16 L7.5 H26.5
pins: 1, 2

## ECE-A0JN472U
designator C?, comment 4700uF  (value not drawn)
CAP ALUM 4700UF 20% 6.3V RADIAL; Part Number: ECE-A0JN472U; Manufacturer: Panasonic Electronic Components; TemperatureRange: -40C ~ 85C; Type: Bi-Polar; Ripple Current: 1.17A @ 120Hz; Value: 4700uF; PartId: 27123; Supplier 1: Digi-Key; Supplier Part Number 1: P1150-ND; ComponentLink1Description: Datasheet; ComponentLink1URL: http://industrial.panasonic.com/www-cgi/jvcr13pz.cgi?E+PZ+3+ABA0097+ECEA0JN472U+7+WW; ComponentLink2Description: Digi-Key Listing; ComponentLink2URL: https://www.digikey.com/product-detail/en/panasonic-electronic-components/ECE-A0JN472U/P1150-ND/227591; Tolerance: 20%; Voltage: 6.3V; Price: 1.75; Device Package: Radial, Can, 16mm
footprint CAP AL TH D16 L7.5 H33.5
pins: 1, 2

## ECE-A1AN222U
designator C?, comment 2200uF  (value not drawn)
CAP ALUM 2200UF 20% 10V RADIAL; Part Number: ECE-A1AN222U; Manufacturer: Panasonic Electronic Components; TemperatureRange: -40C ~ 85C; Type: Bi-Polar; Ripple Current: 690mA @ 120Hz; Value: 2200uF; PartId: 26587; Supplier 1: Digi-Key; Supplier Part Number 1: P1160-ND; ComponentLink1Description: Datasheet; ComponentLink1URL: http://industrial.panasonic.com/www-cgi/jvcr13pz.cgi?E+PZ+3+ABA0097+ECEA1AN222U+7+WW; ComponentLink2Description: Digi-Key Listing; ComponentLink2URL: https://www.digikey.com/product-detail/en/panasonic-electronic-components/ECE-A1AN222U/P1160-ND/227601; Tolerance: 20%; Voltage: 10V; Price: 1.26; Device Package: Radial, Can, 16mm
footprint CAP AL TH D16 L7.5 H26.5
pins: 1, 2

## ECE-A1AN331U
designator C?, comment 330uF  (value not drawn)
CAP ALUM 330UF 20% 10V RADIAL; Part Number: ECE-A1AN331U; Manufacturer: Panasonic Electronic Components; TemperatureRange: -40C ~ 85C; Type: Bi-Polar; Ripple Current: 280mA @ 120Hz; Value: 330uF; PartId: 25342; Supplier 1: Digi-Key; Supplier Part Number 1: P1157-ND; ComponentLink1Description: Datasheet; ComponentLink1URL: http://industrial.panasonic.com/www-cgi/jvcr13pz.cgi?E+PZ+3+ABA0097+ECEA1AN331U+7+WW; ComponentLink2Description: Digi-Key Listing; ComponentLink2URL: https://www.digikey.com/product-detail/en/panasonic-electronic-components/ECE-A1AN331U/P1157-ND/227598; Tolerance: 20%; Voltage: 10V; Price: 0.67; Device Package: Radial, Can, 10mm
footprint CAP AL TH D10 L5 H17.5
pins: 1, 2

## ECE-A1AN332U
designator C?, comment 3300uF  (value not drawn)
CAP ALUM 3300UF 20% 10V RADIAL; Part Number: ECE-A1AN332U; Manufacturer: Panasonic Electronic Components; TemperatureRange: -40C ~ 85C; Type: Bi-Polar; Ripple Current: 1.09A @ 120Hz; Value: 3300uF; PartId: 27120; Supplier 1: Digi-Key; Supplier Part Number 1: P1161-ND; ComponentLink1Description: Datasheet; ComponentLink1URL: http://industrial.panasonic.com/www-cgi/jvcr13pz.cgi?E+PZ+3+ABA0097+ECEA1AN332U+7+WW; ComponentLink2Description: Digi-Key Listing; ComponentLink2URL: https://www.digikey.com/product-detail/en/panasonic-electronic-components/ECE-A1AN332U/P1161-ND/227602; Tolerance: 20%; Voltage: 10V; Price: 1.75; Device Package: Radial, Can, 16mm
footprint CAP AL TH D16 L7.5 H33.5
pins: 1, 2

## ECE-A1AN471U
designator C?, comment 470uF  (value not drawn)
CAP ALUM 470UF 20% 10V RADIAL; Part Number: ECE-A1AN471U; Manufacturer: Panasonic Electronic Components; TemperatureRange: -40C ~ 85C; Type: Bi-Polar; Ripple Current: 340mA @ 120Hz; Value: 470uF; PartId: 25351; Supplier 1: Digi-Key; Supplier Part Number 1: P1158-ND; ComponentLink1Description: Datasheet; ComponentLink1URL: http://industrial.panasonic.com/www-cgi/jvcr13pz.cgi?E+PZ+3+ABA0097+ECEA1AN471U+7+WW; ComponentLink2Description: Digi-Key Listing; ComponentLink2URL: https://www.digikey.com/product-detail/en/panasonic-electronic-components/ECE-A1AN471U/P1158-ND/227599; Tolerance: 20%; Voltage: 10V; Price: 0.68; Device Package: Radial, Can, 10mm
footprint CAP AL TH D10 L5 H17.5
pins: 1, 2

## ECE-A1CN102U
designator C?, comment 1000uF  (value not drawn)
CAP ALUM 1000UF 20% 16V RADIAL; Part Number: ECE-A1CN102U; Manufacturer: Panasonic Electronic Components; TemperatureRange: -40C ~ 85C; Type: Bi-Polar; Ripple Current: 560mA @ 120Hz; Value: 1000uF; PartId: 23609; Supplier 1: Digi-Key; Supplier Part Number 1: P1171-ND; ComponentLink1Description: Datasheet; ComponentLink1URL: http://industrial.panasonic.com/www-cgi/jvcr13pz.cgi?E+PZ+3+ABA0097+ECEA1CN102U+7+WW; ComponentLink2Description: Digi-Key Listing; ComponentLink2URL: https://www.digikey.com/product-detail/en/panasonic-electronic-components/ECE-A1CN102U/P1171-ND/227612; Tolerance: 20%; Voltage: 16V; Price: 1.09; Device Package: Radial, Can, 12.5mm
footprint CAP AL TH D12.5 L5 H25
pins: 1, 2

## ECE-A1CN222U
designator C?, comment 2200uF  (value not drawn)
CAP ALUM 2200UF 20% 16V RADIAL; Part Number: ECE-A1CN222U; Manufacturer: Panasonic Electronic Components; TemperatureRange: -40C ~ 85C; Type: Bi-Polar; Ripple Current: 750mA @ 120Hz; Value: 2200uF; PartId: 27117; Supplier 1: Digi-Key; Supplier Part Number 1: P1172-ND; ComponentLink1Description: Datasheet; ComponentLink1URL: http://industrial.panasonic.com/www-cgi/jvcr13pz.cgi?E+PZ+3+ABA0097+ECEA1CN222U+7+WW; ComponentLink2Description: Digi-Key Listing; ComponentLink2URL: https://www.digikey.com/product-detail/en/panasonic-electronic-components/ECE-A1CN222U/P1172-ND/227613; Tolerance: 20%; Voltage: 16V; Price: 1.75; Device Package: Radial, Can, 16mm
footprint CAP AL TH D16 L7.5 H33.5
pins: 1, 2

## ECE-A1CN331U
designator C?, comment 330uF  (value not drawn)
CAP ALUM 330UF 20% 16V RADIAL; Part Number: ECE-A1CN331U; Manufacturer: Panasonic Electronic Components; TemperatureRange: -40C ~ 85C; Type: Bi-Polar; Ripple Current: 330mA @ 120Hz; Value: 330uF; PartId: 25349; Supplier 1: Digi-Key; Supplier Part Number 1: P1169-ND; ComponentLink1Description: Datasheet; ComponentLink1URL: http://industrial.panasonic.com/www-cgi/jvcr13pz.cgi?E+PZ+3+ABA0097+ECEA1CN331U+7+WW; ComponentLink2Description: Digi-Key Listing; ComponentLink2URL: https://www.digikey.com/product-detail/en/panasonic-electronic-components/ECE-A1CN331U/P1169-ND/227610; Tolerance: 20%; Voltage: 16V; Price: 0.68; Device Package: Radial, Can, 10mm
footprint CAP AL TH D10 L5 H17.5
pins: 1, 2

## ECE-A1CN471U
designator C?, comment 470uF  (value not drawn)
CAP ALUM 470UF 20% 16V RADIAL; Part Number: ECE-A1CN471U; Manufacturer: Panasonic Electronic Components; TemperatureRange: -40C ~ 85C; Type: Bi-Polar; Ripple Current: 380mA @ 120Hz; Value: 470uF; PartId: 25692; Supplier 1: Digi-Key; Supplier Part Number 1: P1170-ND; ComponentLink1Description: Datasheet; ComponentLink1URL: http://industrial.panasonic.com/www-cgi/jvcr13pz.cgi?E+PZ+3+ABA0097+ECEA1CN471U+7+WW; ComponentLink2Description: Digi-Key Listing; ComponentLink2URL: https://www.digikey.com/product-detail/en/panasonic-electronic-components/ECE-A1CN471U/P1170-ND/227611; Tolerance: 20%; Voltage: 16V; Price: 0.82; Device Package: Radial, Can, 10mm
footprint CAP AL TH D10 L5 H22
pins: 1, 2

## ECE-A1EN102U
designator C?, comment 1000uF  (value not drawn)
CAP ALUM 1000UF 20% 25V RADIAL; Part Number: ECE-A1EN102U; Manufacturer: Panasonic Electronic Components; TemperatureRange: -40C ~ 85C; Type: Bi-Polar; Ripple Current: 680mA @ 120Hz; Value: 1000uF; PartId: 26645; Supplier 1: Digi-Key; Supplier Part Number 1: P1184-ND; ComponentLink1Description: Datasheet; ComponentLink1URL: http://industrial.panasonic.com/www-cgi/jvcr13pz.cgi?E+PZ+3+ABA0097+ECEA1EN102U+7+WW; ComponentLink2Description: Digi-Key Listing; ComponentLink2URL: https://www.digikey.com/product-detail/en/panasonic-electronic-components/ECE-A1EN102U/P1184-ND/227625; Tolerance: 20%; Voltage: 25V; Price: 1.53; Device Package: Radial, Can, 16mm
footprint CAP AL TH D16 L7.5 H26.5
pins: 1, 2

## ECE-A1EN221U
designator C?, comment 220uF  (value not drawn)
CAP ALUM 220UF 20% 25V RADIAL; Part Number: ECE-A1EN221U; Manufacturer: Panasonic Electronic Components; TemperatureRange: -40C ~ 85C; Type: Bi-Polar; Ripple Current: 320mA @ 120Hz; Value: 220uF; PartId: 25345; Supplier 1: Digi-Key; Supplier Part Number 1: P1181-ND; ComponentLink1Description: Datasheet; ComponentLink1URL: http://industrial.panasonic.com/www-cgi/jvcr13pz.cgi?E+PZ+3+ABA0097+ECEA1EN221U+7+WW; ComponentLink2Description: Digi-Key Listing; ComponentLink2URL: https://www.digikey.com/product-detail/en/panasonic-electronic-components/ECE-A1EN221U/P1181-ND/227622; Tolerance: 20%; Voltage: 25V; Price: 0.68; Device Package: Radial, Can, 10mm
footprint CAP AL TH D10 L5 H17.5
pins: 1, 2

## ECE-A1EN221UB
designator C?, comment 220uF  (value not drawn)
CAP ALUM 220UF 20% 25V RADIAL; Part Number: ECE-A1EN221UB; Manufacturer: Panasonic Electronic Components; TemperatureRange: -40C ~ 85C; Type: Bi-Polar; Ripple Current: 320mA @ 120Hz; Value: 220uF; PartId: 25095; Supplier 1: Digi-Key; Supplier Part Number 1: P19584TB-ND; ComponentLink1Description: Datasheet; ComponentLink1URL: http://industrial.panasonic.com/www-cgi/jvcr13pz.cgi?E+PZ+3+ABA0097+ECEA1EN221UB+7+WW; ComponentLink2Description: Digi-Key Listing; ComponentLink2URL: https://www.digikey.com/product-detail/en/panasonic-electronic-components/ECE-A1EN221UB/P19584TB-ND/2689110; Tolerance: 20%; Voltage: 25V; Price: 0.2734; Device Package: Radial, Can, 10mm
footprint CAP AL TH D10 L5 H17.5
pins: 1, 2

## ECE-A1EN331U
designator C?, comment 330uF  (value not drawn)
CAP ALUM 330UF 20% 25V RADIAL; Part Number: ECE-A1EN331U; Manufacturer: Panasonic Electronic Components; TemperatureRange: -40C ~ 85C; Type: Bi-Polar; Ripple Current: 350mA @ 120Hz; Value: 330uF; PartId: 22899; Supplier 1: Digi-Key; Supplier Part Number 1: P1182-ND; ComponentLink1Description: Datasheet; ComponentLink1URL: http://industrial.panasonic.com/www-cgi/jvcr13pz.cgi?E+PZ+3+ABA0097+ECEA1EN331U+7+WW; ComponentLink2Description: Digi-Key Listing; ComponentLink2URL: https://www.digikey.com/product-detail/en/panasonic-electronic-components/ECE-A1EN331U/P1182-ND/227623; Tolerance: 20%; Voltage: 25V; Price: 0; Device Package: Radial, Can, 12.5mm
footprint CAP AL TH D12.5 L5 H20
pins: 1, 2

## ECE-A1EN471U
designator C?, comment 470uF  (value not drawn)
CAP ALUM 470UF 20% 25V RADIAL; Part Number: ECE-A1EN471U; Manufacturer: Panasonic Electronic Components; TemperatureRange: -40C ~ 85C; Type: Bi-Polar; Ripple Current: 430mA @ 120Hz; Value: 470uF; PartId: 22923; Supplier 1: Digi-Key; Supplier Part Number 1: P1183-ND; ComponentLink1Description: Datasheet; ComponentLink1URL: http://industrial.panasonic.com/www-cgi/jvcr13pz.cgi?E+PZ+3+ABA0097+ECEA1EN471U+7+WW; ComponentLink2Description: Digi-Key Listing; ComponentLink2URL: https://www.digikey.com/product-detail/en/panasonic-electronic-components/ECE-A1EN471U/P1183-ND/227624; Tolerance: 20%; Voltage: 25V; Price: 0; Device Package: Radial, Can, 12.5mm
footprint CAP AL TH D12.5 L5 H20
pins: 1, 2

## ECE-A1EN471UB
designator C?, comment 470uF  (value not drawn)
CAP ALUM 470UF 20% 25V RADIAL; Part Number: ECE-A1EN471UB; Manufacturer: Panasonic Electronic Components; TemperatureRange: -40C ~ 85C; Type: Bi-Polar; Ripple Current: 430mA @ 120Hz; Value: 470uF; PartId: 23404; Supplier 1: Digi-Key; Supplier Part Number 1: P19585CT-ND; ComponentLink1Description: Datasheet; ComponentLink1URL: http://industrial.panasonic.com/www-cgi/jvcr13pz.cgi?E+PZ+3+ABA0097+ECEA1EN471UB+7+WW; ComponentLink2Description: Digi-Key Listing; ComponentLink2URL: https://www.digikey.com/product-detail/en/panasonic-electronic-components/ECE-A1EN471UB/P19585CT-ND/6109483; Tolerance: 20%; Voltage: 25V; Price: 0.98; Device Package: Radial, Can, 12.5mm
footprint CAP AL TH D12.5 L5 H22
pins: 1, 2

## ECE-A1HN101U
designator C?, comment 100uF  (value not drawn)
CAP ALUM 100UF 20% 50V RADIAL; Part Number: ECE-A1HN101U; Manufacturer: Panasonic Electronic Components; TemperatureRange: -40C ~ 85C; Type: Bi-Polar; Ripple Current: 250mA @ 120Hz; Value: 100uF; PartId: 25667; Supplier 1: Digi-Key; Supplier Part Number 1: P1284-ND; ComponentLink1Description: Datasheet; ComponentLink1URL: http://industrial.panasonic.com/cdbs/www-data/pdf/RDF0000/ABA0000C83.pdf; ComponentLink2Description: Digi-Key Listing; ComponentLink2URL: https://www.digikey.com/product-detail/en/panasonic-electronic-components/ECE-A1HN101U/P1284-ND/228298; Tolerance: 20%; Voltage: 50V; Price: 0.77; Device Package: Radial, Can, 10mm
footprint CAP AL TH D10 L5 H22
pins: 1, 2

## ECE-A1HN221U
designator C?, comment 220uF  (value not drawn)
CAP ALUM 220UF 20% 50V RADIAL; Part Number: ECE-A1HN221U; Manufacturer: Panasonic Electronic Components; TemperatureRange: -40C ~ 85C; Type: Bi-Polar; Ripple Current: 360mA @ 120Hz; Value: 220uF; PartId: 23576; Supplier 1: Digi-Key; Supplier Part Number 1: P1285-ND; ComponentLink1Description: Datasheet; ComponentLink1URL: http://industrial.panasonic.com/cdbs/www-data/pdf/RDF0000/ABA0000C83.pdf; ComponentLink2Description: Digi-Key Listing; ComponentLink2URL: https://www.digikey.com/product-detail/en/panasonic-electronic-components/ECE-A1HN221U/P1285-ND/228300; Tolerance: 20%; Voltage: 50V; Price: 0.98; Device Package: Radial, Can, 12.5mm
footprint CAP AL TH D12.5 L5 H25
pins: 1, 2